# Altium schematic symbol library gumstix.SchLib: 23 symbols
Pins are listed as number, name and electrical type; pins without a type are passive.

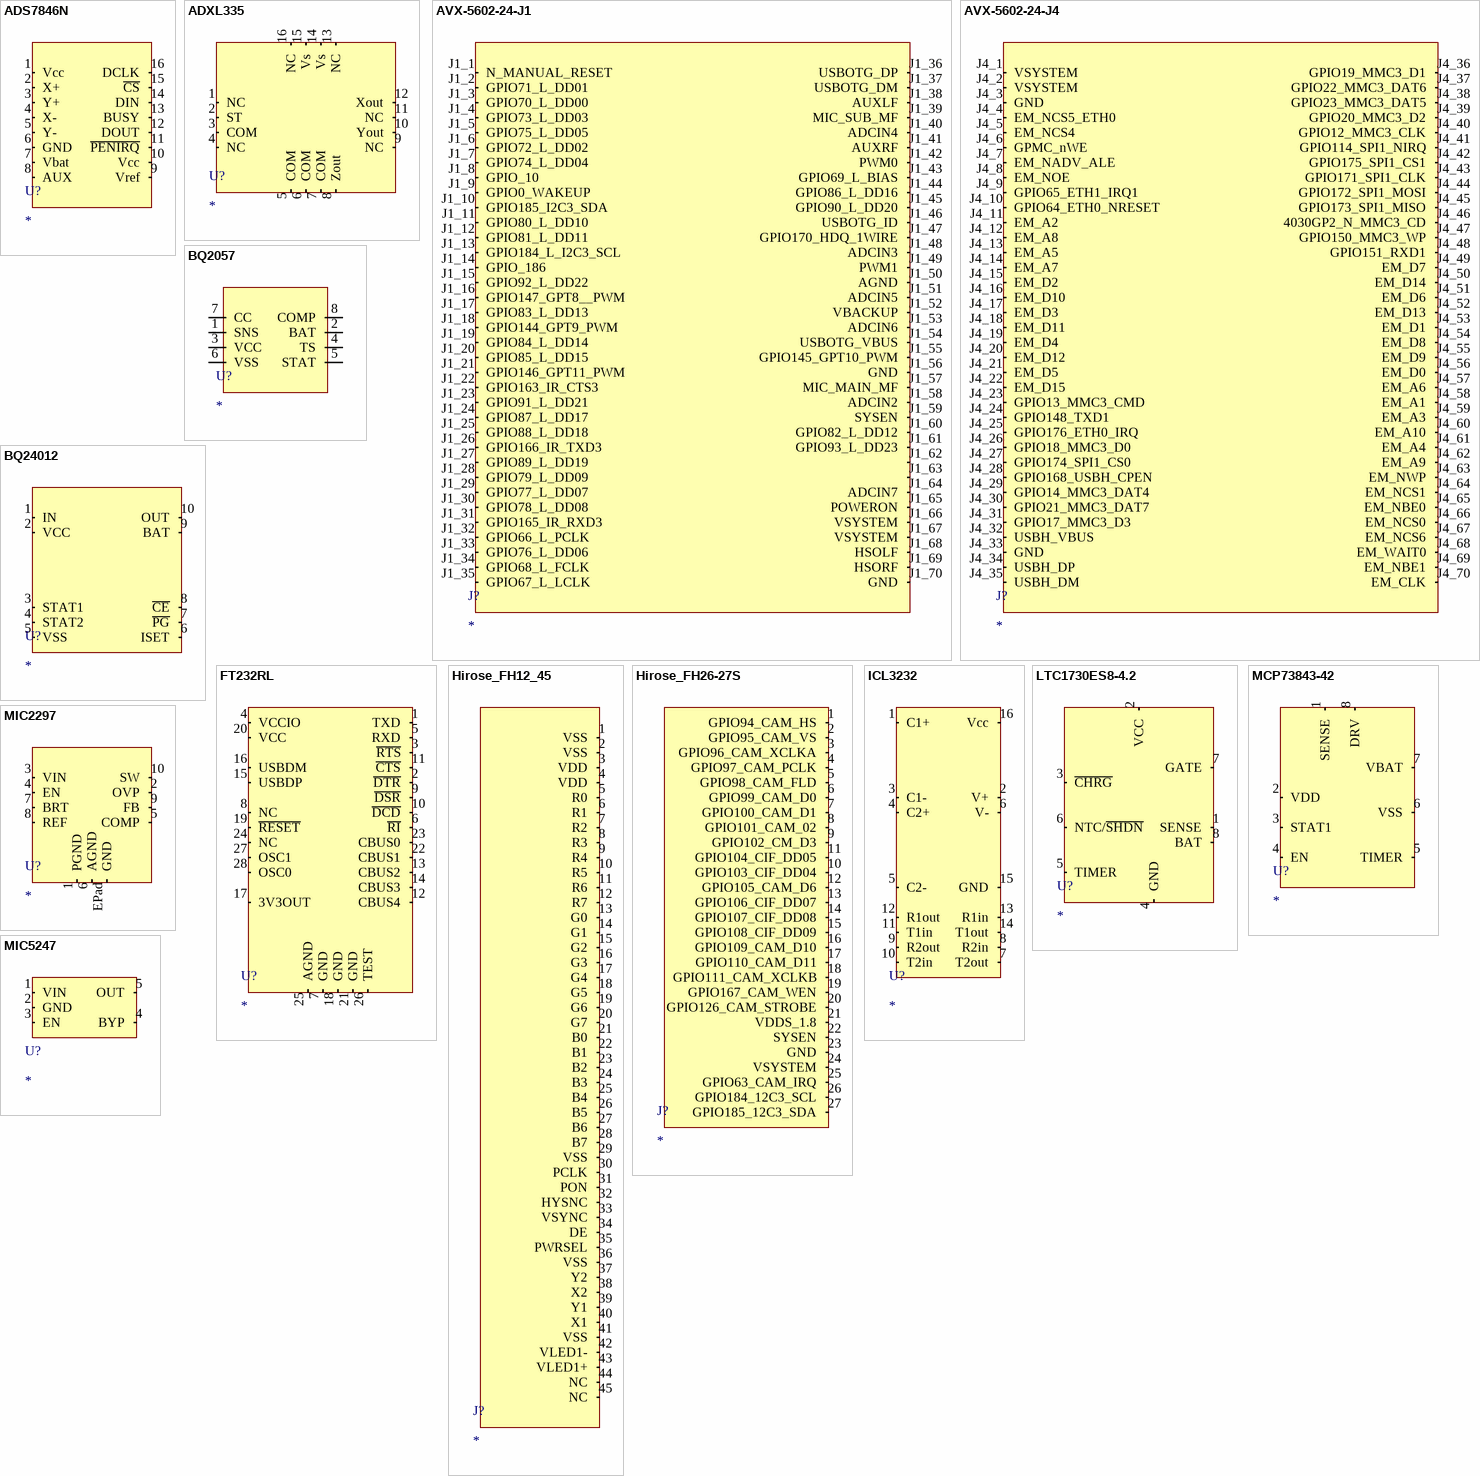
[diagram p0: symbols ADS7846N to MIC5247]

## ADS7846N
designator U?
4-wire Touch Screen Controller
footprint TSOP65P640X120-16N (TSOP, 16-Leads, Body 5.1x4.5mm (max), Pitch 0.65mm, IPC Medium Density)
pins: 1 Vcc (power), 2 X+ (io), 3 Y+ (io), 4 X- (io), 5 Y- (io), 6 GND (power), 7 Vbat (power), 8 AUX (io), 9 Vref (power), 10 Vcc (power), 11 ~{PENIRQ} (io), 12 DOUT (io), 13 BUSY (io), 14 DIN (io), 15 ~{CS} (io), 16 DCLK (io)

## ADXL335
designator U?
Low power 3-axis +/- 3g accelerometer
pins: 1 NC, 2 ST, 3 COM, 4 NC, 5 COM, 6 COM, 7 COM, 8 Zout, 9 NC, 10 Yout, 11 NC, 12 Xout, 13 NC, 14 Vs, 15 Vs, 16 NC

## AVX-5602-24-J1
designator J?
Mates with Overo motherboard J1; HelpURL: ../common/datasheets/AVX-5602.pdf
footprint AVX-5602-J1 (Receptacle Vertical SMT Without metal tab)
pins: J1_1 N_MANUAL_RESET (io) "Use to trigger hard reset (i.e power-on-reset)", J1_2 GPIO71_L_DD01 (io), J1_3 GPIO70_L_DD00 (io), J1_4 GPIO73_L_DD03 (io), J1_5 GPIO75_L_DD05 (io), J1_6 GPIO72_L_DD02 (io), J1_7 GPIO74_L_DD04 (io), J1_8 GPIO_10 (io), J1_9 GPIO0_WAKEUP (io), J1_10 GPIO185_I2C3_SDA (io), J1_11 GPIO80_L_DD10 (io), J1_12 GPIO81_L_DD11 (io), J1_13 GPIO184_L_I2C3_SCL (io), J1_14 GPIO_186 (io), J1_15 GPIO92_L_DD22 (io), J1_16 GPIO147_GPT8__PWM (io), J1_17 GPIO83_L_DD13 (io), J1_18 GPIO144_GPT9_PWM (io), J1_19 GPIO84_L_DD14 (io), J1_20 GPIO85_L_DD15 (io), J1_21 GPIO146_GPT11_PWM (io), J1_22 GPIO163_IR_CTS3 (io), J1_23 GPIO91_L_DD21 (io), J1_24 GPIO87_L_DD17 (io), J1_25 GPIO88_L_DD18 (io), J1_26 GPIO166_IR_TXD3 (io), J1_27 GPIO89_L_DD19 (io), J1_28 GPIO79_L_DD09 (io), J1_29 GPIO77_L_DD07 (io), J1_30 GPIO78_L_DD08 (io), J1_31 GPIO165_IR_RXD3 (io), J1_32 GPIO66_L_PCLK (io), J1_33 GPIO76_L_DD06 (io), J1_34 GPIO68_L_FCLK (io), J1_35 GPIO67_L_LCLK (io), J1_36 USBOTG_DP (io), J1_37 USBOTG_DM (io), J1_38 AUXLF (io), J1_39 MIC_SUB_MF (io), J1_40 ADCIN4 (io), J1_41 AUXRF (io), J1_42 PWM0 (io), J1_43 GPIO69_L_BIAS (io), J1_44 GPIO86_L_DD16 (io), J1_45 GPIO90_L_DD20 (io), J1_46 USBOTG_ID (io), J1_47 GPIO170_HDQ_1WIRE (io), J1_48 ADCIN3 (io), J1_49 PWM1 (io), J1_50 AGND (power), J1_51 ADCIN5 (io), J1_52 VBACKUP (power) "Backup battery input to PMIC", J1_53 ADCIN6 (io), J1_54 USBOTG_VBUS (io) "power out from the PMIC", J1_55 GPIO145_GPT10_PWM (io), J1_56 GND (power), J1_57 MIC_MAIN_MF (io), J1_58 ADCIN2 (io), J1_59 SYSEN (io) "Connected to SYSEN on PMIC", J1_60 GPIO82_L_DD12 (io), J1_61 GPIO93_L_DD23 (io), J1_62 (io), J1_63 (io), J1_64 ADCIN7 (io), J1_65 POWERON (io) "Connected to PWRON on PMIC", J1_66 VSYSTEM (power) "board supply: 3.3V - 4.2V", J1_67 VSYSTEM (power) "board supply: 3.3V - 4.2V", J1_68 HSOLF (io), J1_69 HSORF (io), J1_70 GND (power)

## AVX-5602-24-J4
designator J?
Mates with Overo Motherboard J4
footprint AVX-5602-J1 (Receptacle Vertical SMT Without metal tab)
pins: J4_1 VSYSTEM (power) "board supply: 3.3V - 4.2V", J4_2 VSYSTEM (power) "board supply: 3.3V - 4.2V", J4_3 GND (power), J4_4 EM_NCS5_ETH0 (io), J4_5 EM_NCS4 (io), J4_6 GPMC_nWE (io), J4_7 EM_NADV_ALE (io), J4_8 EM_NOE (io), J4_9 GPIO65_ETH1_IRQ1 (io), J4_10 GPIO64_ETH0_NRESET (io), J4_11 EM_A2 (io), J4_12 EM_A8 (io), J4_13 EM_A5 (io), J4_14 EM_A7 (io), J4_15 EM_D2 (io), J4_16 EM_D10 (io), J4_17 EM_D3 (io), J4_18 EM_D11 (io), J4_19 EM_D4 (io), J4_20 EM_D12 (io), J4_21 EM_D5 (io), J4_22 EM_D15 (io), J4_23 GPIO13_MMC3_CMD (io), J4_24 GPIO148_TXD1 (io), J4_25 GPIO176_ETH0_IRQ (io), J4_26 GPIO18_MMC3_D0 (io), J4_27 GPIO174_SPI1_CS0 (io), J4_28 GPIO168_USBH_CPEN (io), J4_29 GPIO14_MMC3_DAT4 (io), J4_30 GPIO21_MMC3_DAT7 (io), J4_31 GPIO17_MMC3_D3 (io), J4_32 USBH_VBUS (power) "power in from expansion board", J4_33 GND (power), J4_34 USBH_DP (io), J4_35 USBH_DM (io), J4_36 GPIO19_MMC3_D1 (io), J4_37 GPIO22_MMC3_DAT6 (io), J4_38 GPIO23_MMC3_DAT5 (io), J4_39 GPIO20_MMC3_D2 (io), J4_40 GPIO12_MMC3_CLK (io), J4_41 GPIO114_SPI1_NIRQ (io), J4_42 GPIO175_SPI1_CS1 (io), J4_43 GPIO171_SPI1_CLK (io), J4_44 GPIO172_SPI1_MOSI (io), J4_45 GPIO173_SPI1_MISO (io), J4_46 4030GP2_N_MMC3_CD (io) "Card Detect signal for MMC3. Come from PMIC", J4_47 GPIO150_MMC3_WP (io), J4_48 GPIO151_RXD1 (io), J4_49 EM_D7 (io), J4_50 EM_D14 (io), J4_51 EM_D6 (io), J4_52 EM_D13 (io), J4_53 EM_D1 (io), J4_54 EM_D8 (io), J4_55 EM_D9 (io), J4_56 EM_D0 (io), J4_57 EM_A6 (io), J4_58 EM_A1 (io), J4_59 EM_A3 (io), J4_60 EM_A10 (io), J4_61 EM_A4 (io), J4_62 EM_A9 (io), J4_63 EM_NWP (io), J4_64 EM_NCS1 (io), J4_65 EM_NBE0 (io), J4_66 EM_NCS0 (io), J4_67 EM_NCS6 (io), J4_68 EM_WAIT0 (io), J4_69 EM_NBE1 (io), J4_70 EM_CLK (io)

## BQ2057
designator U?
Advanced Linear Charge Management IC for single Li-ion and Li-polymer
footprint TSOP8
pins: 1 SNS, 2 BAT, 3 VCC, 4 TS, 5 STAT, 6 VSS, 7 CC, 8 COMP

## BQ24012
designator U?
Single Chip Li-Ion charge management IC
footprint SON10-P0.5
pins: 1 IN, 2 VCC, 3 STAT1, 4 STAT2, 5 VSS, 6 ISET, 7 ~{PG}, 8 ~{CE}, 9 BAT, 10 OUT

## FT232RL
designator U?
USB TO serial UART IC
footprint SOP28-P6.5 (SOP, 28-Leads, Body 10.5x5.6mm (max), Pitch 0.65mm, IPC Medium Density)
pins: 1 TXD, 2 ~{DTR}, 3 ~{RTS}, 4 VCCIO, 5 RXD, 6 ~{RI}, 7 GND, 8 NC, 9 ~{DSR}, 10 ~{DCD}, 11 ~{CTS}, 12 CBUS4, 13 CBUS2, 14 CBUS3, 15 USBDP, 16 USBDM, 17 3V3OUT, 18 GND, 19 ~{RESET}, 20 VCC, 21 GND, 22 CBUS1, 23 CBUS0, 24 NC, 25 AGND, 26 TEST, 27 OSC1, 28 OSC0

## Hirose_FH12_45
designator J?
Hirose FH12 series 45 way connector for Samsung LCD; HelpURL: ..\common\datasheets\connectors\FH12-45.pdf
footprint Hirose_FH12-45S (45 Pin connector for Samsung LCD)
pins: 1 VSS (power) "Gound", 2 VSS (power) "Ground", 3 VDD (power) "2.5V or 3.3V", 4 VDD (power) "2.5V or 3.3V", 5 R0 (in) "Red Data", 6 R1 (in) "Red Data", 7 R2 (in) "Red Data", 8 R3 (in) "Red Data", 9 R4 (in) "Red Data", 10 R5 (in) "Red Data", 11 R6 (in) "Red Data", 12 R7 (in) "Red Data", 13 G0 (in) "Green Data", 14 G1 (in) "Green Data", 15 G2 (in) "Green Data", 16 G3 (in) "Green Data", 17 G4 (in) "Green Data", 18 G5 (in) "Green Data", 19 G6 (in) "Green Data", 20 G7 (in) "Green Data", 21 B0 (in) "Blue Data", 22 B1 (in) "Blue Data", 23 B2 (in) "Blue Data", 24 B3 (in) "Blue Data", 25 B4 (in) "Blue Data", 26 B5 (in) "Blue Data", 27 B6 (in) "Blue Data", 28 B7 (in) "Blue Data", 29 VSS (power) "Ground", 30 PCLK (io) "Pixel Clock", 31 PON (io) "Display On/Off", 32 HYSNC (io) "Horizontal Sync Signal", 33 VSYNC (io) "Vertical Sync Signal", 34 DE (io) "Data Enable", 35 PWRSEL (io) "VDD power select", 36 VSS (power) "Ground", 37 Y2 (io) "Top Electrode", 38 X2 (io) "Left Electrode", 39 Y1 (io) "Bottom Electrode", 40 X1 (io) "Right Electrode", 41 VSS (power) "Ground", 42 VLED1- (io) "LED 1 Cathode", 43 VLED1+ (io) "LED 1 Anode", 44 NC "Not Connected", 45 NC "Not Connected"

## Hirose_FH26-27S
designator J?
Hirose connector for camera interface; HelpURL: ..\..\common\datasheets\connectors\FH26-27S.pdf
footprint Hirose_FH26-27S (Camera Interface connector)
pins: 1 GPIO94_CAM_HS, 2 GPIO95_CAM_VS, 3 GPIO96_CAM_XCLKA, 4 GPIO97_CAM_PCLK, 5 GPIO98_CAM_FLD, 6 GPIO99_CAM_D0, 7 GPIO100_CAM_D1, 8 GPIO101_CAM_02, 9 GPIO102_CM_D3, 10 GPIO103_CIF_DD04, 11 GPIO104_CIF_DD05, 12 GPIO105_CAM_D6, 13 GPIO106_CIF_DD07, 14 GPIO107_CIF_DD08, 15 GPIO108_CIF_DD09, 16 GPIO109_CAM_D10, 17 GPIO110_CAM_D11, 18 GPIO111_CAM_XCLKB, 19 GPIO167_CAM_WEN, 20 GPIO126_CAM_STROBE, 21 VDDS_1.8, 22 SYSEN, 23 GND, 24 VSYSTEM "board supply: 3.3V - 4.2V", 25 GPIO63_CAM_IRQ, 26 GPIO184_12C3_SCL, 27 GPIO185_12C3_SDA

## ICL3232
designator U?
footprint SO16
footprint TSSOP16
pins: 1 C1+, 2 V+, 3 C1-, 4 C2+, 5 C2-, 6 V-, 7 T2out, 8 R2in, 9 R2out, 10 T2in, 11 T1in, 12 R1out, 13 R1in, 14 T1out, 15 GND, 16 Vcc

## LTC1730ES8-4.2
designator U?
Lithium-Ion Battery Pulse Charger with Overcurrent Protection
footprint SO8
pins: 1 SENSE, 2 VCC, 3 ~{CHRG}, 4 GND, 5 TIMER, 6 NTC/~{SHDN}, 7 GATE, 8 BAT

## MCP73843-42
designator U?
Advanced Single or Dual Cell Li-Ion/Li-Poly Charge Management Controller
pins: 1 SENSE, 2 VDD, 3 STAT1, 4 EN, 5 TIMER, 6 VSS, 7 VBAT, 8 DRV

## MIC2297
designator U?
40V PWM Boost Regulator White LED Driver
footprint MIC2297 (Micrel White LED Driver)
pins: 1 PGND (power), 2 OVP (io), 3 VIN (power), 4 EN (io), 5 COMP (io), 6 AGND (power), 7 BRT (io), 8 REF (io), 9 FB (io), 10 SW (io), EPad GND (power)

## MIC5247
designator U?
150mA Low-Voltage Linear Regulator
footprint SOT23-5
pins: 1 VIN, 2 GND, 3 EN, 4 BYP, 5 OUT

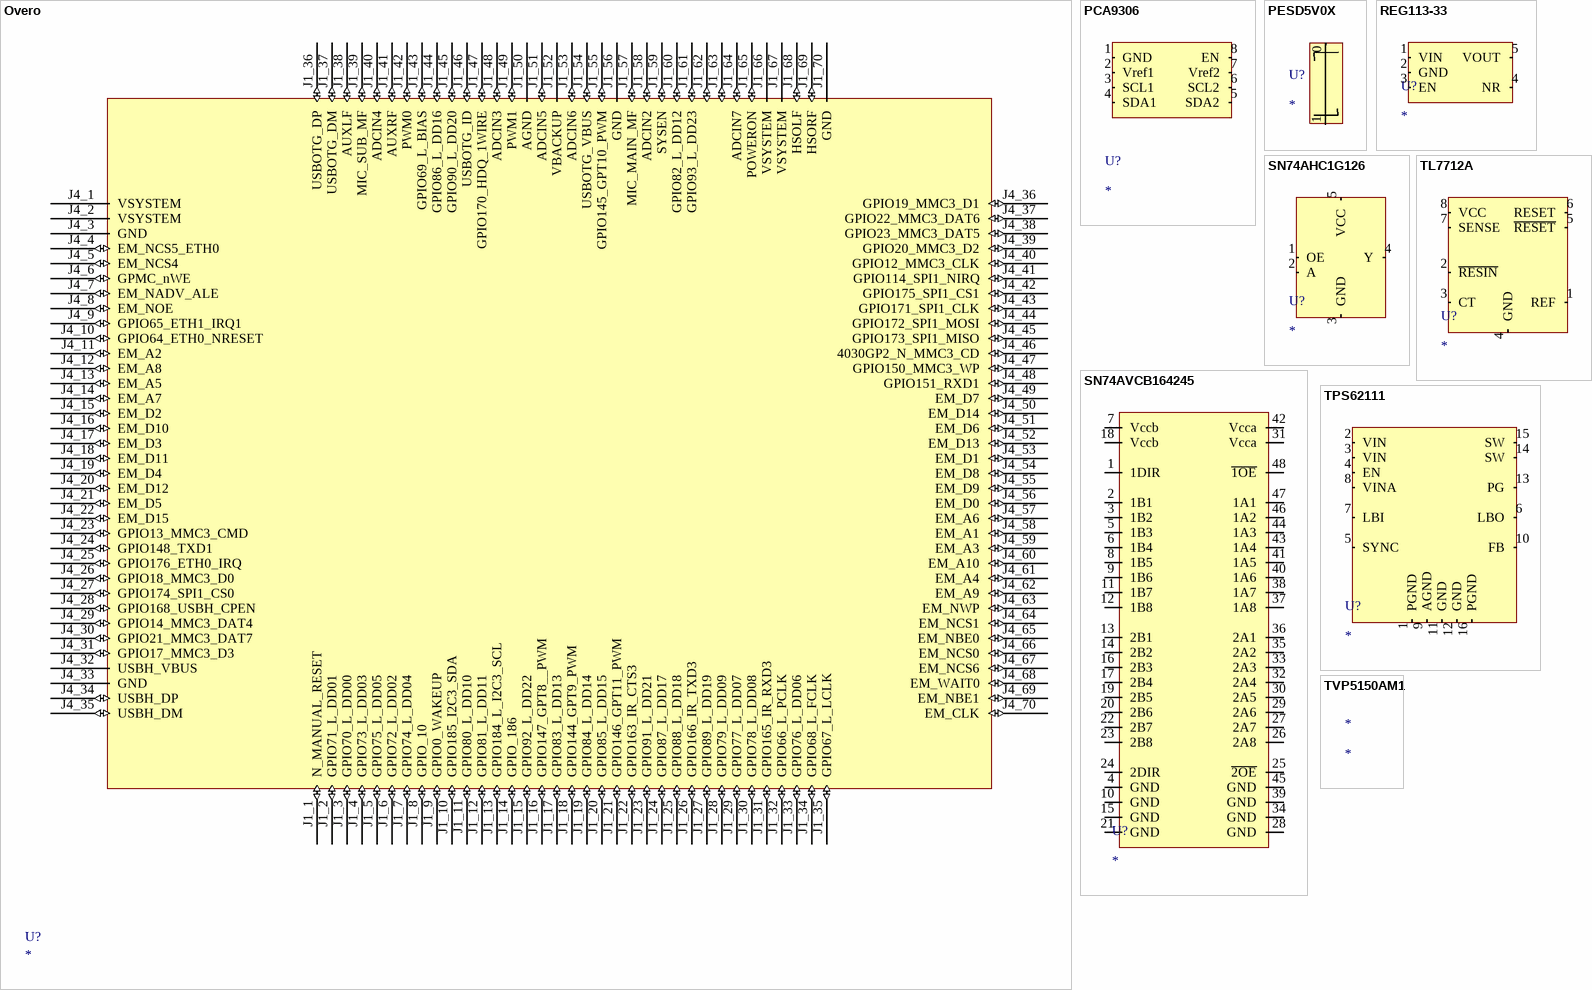
[diagram p1: symbols Overo to TVP5150AM1]

## Overo
designator U?
Gumstix Overo Motherboard
footprint Overo (Gumstix Overo Motherboard placement)
pins: J1_1 N_MANUAL_RESET (io) "Use to trigger hard reset (i.e power-on-reset)", J1_2 GPIO71_L_DD01 (io), J1_3 GPIO70_L_DD00 (io), J1_4 GPIO73_L_DD03 (io), J1_5 GPIO75_L_DD05 (io), J1_6 GPIO72_L_DD02 (io), J1_7 GPIO74_L_DD04 (io), J1_8 GPIO_10 (io), J1_9 GPIO0_WAKEUP (io), J1_10 GPIO185_I2C3_SDA (io), J1_11 GPIO80_L_DD10 (io), J1_12 GPIO81_L_DD11 (io), J1_13 GPIO184_L_I2C3_SCL (io), J1_14 GPIO_186 (io), J1_15 GPIO92_L_DD22 (io), J1_16 GPIO147_GPT8__PWM (io), J1_17 GPIO83_L_DD13 (io), J1_18 GPIO144_GPT9_PWM (io), J1_19 GPIO84_L_DD14 (io), J1_20 GPIO85_L_DD15 (io), J1_21 GPIO146_GPT11_PWM (io), J1_22 GPIO163_IR_CTS3 (io), J1_23 GPIO91_L_DD21 (io), J1_24 GPIO87_L_DD17 (io), J1_25 GPIO88_L_DD18 (io), J1_26 GPIO166_IR_TXD3 (io), J1_27 GPIO89_L_DD19 (io), J1_28 GPIO79_L_DD09 (io), J1_29 GPIO77_L_DD07 (io), J1_30 GPIO78_L_DD08 (io), J1_31 GPIO165_IR_RXD3 (io), J1_32 GPIO66_L_PCLK (io), J1_33 GPIO76_L_DD06 (io), J1_34 GPIO68_L_FCLK (io), J1_35 GPIO67_L_LCLK (io), J1_36 USBOTG_DP (io), J1_37 USBOTG_DM (io), J1_38 AUXLF (io), J1_39 MIC_SUB_MF (io), J1_40 ADCIN4 (io), J1_41 AUXRF (io), J1_42 PWM0 (io), J1_43 GPIO69_L_BIAS (io), J1_44 GPIO86_L_DD16 (io), J1_45 GPIO90_L_DD20 (io), J1_46 USBOTG_ID (io), J1_47 GPIO170_HDQ_1WIRE (io), J1_48 ADCIN3 (io), J1_49 PWM1 (io), J1_50 AGND (power), J1_51 ADCIN5 (io), J1_52 VBACKUP (power) "Backup battery input to PMIC", J1_53 ADCIN6 (io), J1_54 USBOTG_VBUS (io) "power out from the PMIC", J1_55 GPIO145_GPT10_PWM (io), J1_56 GND (power), J1_57 MIC_MAIN_MF (io), J1_58 ADCIN2 (io), J1_59 SYSEN (io) "Connected to SYSEN on PMIC", J1_60 GPIO82_L_DD12 (io), J1_61 GPIO93_L_DD23 (io), J1_62 (io), J1_63 (io), J1_64 ADCIN7 (io), J1_65 POWERON (io) "Connected to PWRON on PMIC", J1_66 VSYSTEM (power) "board supply: 3.3V - 4.2V", J1_67 VSYSTEM (power) "board supply: 3.3V - 4.2V", J1_68 HSOLF (io), J1_69 HSORF (io), J1_70 GND (power), J4_1 VSYSTEM (power) "board supply: 3.3V - 4.2V", J4_2 VSYSTEM (power) "board supply: 3.3V - 4.2V", J4_3 GND (power), J4_4 EM_NCS5_ETH0 (io), J4_5 EM_NCS4 (io), J4_6 GPMC_nWE (io), J4_7 EM_NADV_ALE (io), J4_8 EM_NOE (io), J4_9 GPIO65_ETH1_IRQ1 (io), J4_10 GPIO64_ETH0_NRESET (io), J4_11 EM_A2 (io), J4_12 EM_A8 (io), J4_13 EM_A5 (io), J4_14 EM_A7 (io), J4_15 EM_D2 (io), J4_16 EM_D10 (io), J4_17 EM_D3 (io), J4_18 EM_D11 (io), J4_19 EM_D4 (io), J4_20 EM_D12 (io), J4_21 EM_D5 (io), J4_22 EM_D15 (io), J4_23 GPIO13_MMC3_CMD (io), J4_24 GPIO148_TXD1 (io), J4_25 GPIO176_ETH0_IRQ (io), J4_26 GPIO18_MMC3_D0 (io), J4_27 GPIO174_SPI1_CS0 (io), J4_28 GPIO168_USBH_CPEN (io), J4_29 GPIO14_MMC3_DAT4 (io), J4_30 GPIO21_MMC3_DAT7 (io), J4_31 GPIO17_MMC3_D3 (io), J4_32 USBH_VBUS (power) "power in from expansion board", J4_33 GND (power), J4_34 USBH_DP (io), J4_35 USBH_DM (io), J4_36 GPIO19_MMC3_D1 (io), J4_37 GPIO22_MMC3_DAT6 (io), J4_38 GPIO23_MMC3_DAT5 (io), J4_39 GPIO20_MMC3_D2 (io), J4_40 GPIO12_MMC3_CLK (io), J4_41 GPIO114_SPI1_NIRQ (io), J4_42 GPIO175_SPI1_CS1 (io), J4_43 GPIO171_SPI1_CLK (io), J4_44 GPIO172_SPI1_MOSI (io), J4_45 GPIO173_SPI1_MISO (io), J4_46 4030GP2_N_MMC3_CD (io) "Card Detect signal for MMC3. Come from PMIC", J4_47 GPIO150_MMC3_WP (io), J4_48 GPIO151_RXD1 (io), J4_49 EM_D7 (io), J4_50 EM_D14 (io), J4_51 EM_D6 (io), J4_52 EM_D13 (io), J4_53 EM_D1 (io), J4_54 EM_D8 (io), J4_55 EM_D9 (io), J4_56 EM_D0 (io), J4_57 EM_A6 (io), J4_58 EM_A1 (io), J4_59 EM_A3 (io), J4_60 EM_A10 (io), J4_61 EM_A4 (io), J4_62 EM_A9 (io), J4_63 EM_NWP (io), J4_64 EM_NCS1 (io), J4_65 EM_NBE0 (io), J4_66 EM_NCS0 (io), J4_67 EM_NCS6 (io), J4_68 EM_WAIT0 (io), J4_69 EM_NBE1 (io), J4_70 EM_CLK (io)

## PCA9306
designator U?
Dual Bi-Directional I2C bus and SMBus voltage-level translator
pins: 1 GND, 2 Vref1, 3 SCL1, 4 SDA1, 5 SDA2, 6 SCL2, 7 Vref2, 8 EN

## PESD5V0X
designator U?
Ultra low capacitance bidirectional ESD protection diodes
footprint SOD323
pins: 0, 1

## REG113-33
designator U?
400mA Low-Dropout Regulator
footprint SOT23-5
pins: 1 VIN, 2 GND, 3 EN, 4 NR, 5 VOUT

## SN74AHC1G126
designator U?
Single Bus Buffer Gate with 3 State Output
footprint SOT23-5
pins: 1 OE, 2 A, 3 GND, 4 Y, 5 VCC

## SN74AVCB164245
designator U?
16-bit dual supply bus transceiver
footprint TSSOP50P810X120-48L (TSSOP, 48-Leads, Body 12.6x6.2mm (max), Pitch 0.50mm, IPC High Density)
pins: 1 1DIR (io), 2 1B1 (io), 3 1B2 (io), 4 GND (power), 5 1B3 (io), 6 1B4 (io), 7 Vccb (power), 8 1B5 (io), 9 1B6 (io), 10 GND (power), 11 1B7 (io), 12 1B8 (io), 13 2B1 (io), 14 2B2 (io), 15 GND (power), 16 2B3 (io), 17 2B4 (io), 18 Vccb (power), 19 2B5 (io), 20 2B6 (io), 21 GND (power), 22 2B7 (io), 23 2B8 (io), 24 2DIR (io), 25 ~{2OE} (io), 26 2A8 (io), 27 2A7 (io), 28 GND (power), 29 2A6 (io), 30 2A5 (io), 31 Vcca (power), 32 2A4 (io), 33 2A3 (io), 34 GND (power), 35 2A2 (io), 36 2A1 (io), 37 1A8 (io), 38 1A7 (io), 39 GND (power), 40 1A6 (io), 41 1A5 (io), 42 Vcca (power), 43 1A4 (io), 44 1A3 (io), 45 GND (power), 46 1A2 (io), 47 1A1 (io), 48 ~{1OE} (io)

## TL7712A
designator U?
Supply-Voltage Supervisor
pins: 1 REF, 2 ~{RESIN}, 3 CT, 4 GND, 5 ~{RESET}, 6 RESET, 7 SENSE, 8 VCC

## TPS62111
designator U?
17v, 1.5A, Synchronous step-down converter
footprint QFN16-P6.5 (QFN, 16-Leads, Body 4.2x4.2mm (max), Pitch 0.65mm, IPC Medium Density)
pins: 1 PGND, 2 VIN, 3 VIN, 4 EN, 5 SYNC, 6 LBO, 7 LBI, 8 VINA, 9 AGND, 10 FB, 11 GND, 12 GND, 13 PG, 14 SW, 15 SW, 16 PGND

## TVP5150AM1
designator *